# Altium integrated library ICM-45686.IntLib: 1 symbol
Pins are listed as number, name and electrical type; pins without a type are passive.

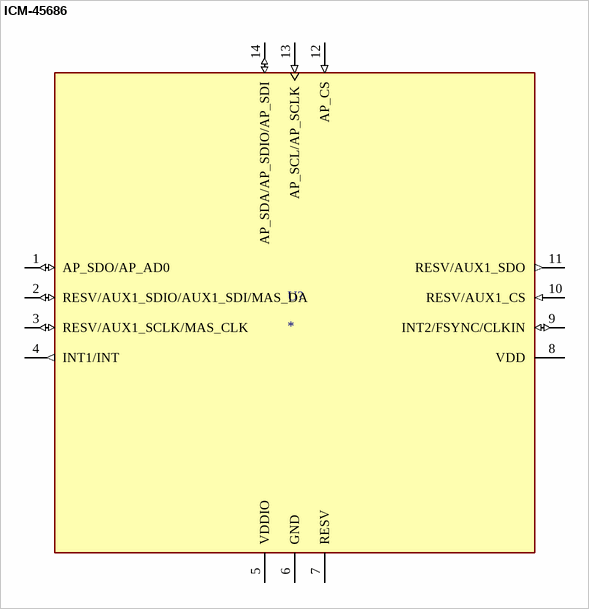
[diagram p0: symbol ICM-45686]

## ICM-45686
designator U?
Accelerometer, Gyroscope, 6 Axis Sensor I2C, I3C, SPI Output; MF: TDK InvenSense; MP: ICM-45686; SnapEDA_Link: https://www.snapeda.com/parts/ICM-45686/TDK+InvenSense/view-part/?ref=snap; Package: Package; Value: *; Check_prices: https://www.snapeda.com/parts/ICM-45686/TDK+InvenSense/view-part/?ref=eda
footprint IC_ICM-45686
pins: 1 AP_SDO/AP_AD0 (io), 2 RESV/AUX1_SDIO/AUX1_SDI/MAS_DA (io), 3 RESV/AUX1_SCLK/MAS_CLK (io), 4 INT1/INT (out), 5 VDDIO (power), 6 GND (power), 7 RESV, 8 VDD (power), 9 INT2/FSYNC/CLKIN (io), 10 RESV/AUX1_CS (in), 11 RESV/AUX1_SDO (out), 12 AP_CS (in), 13 AP_SCL/AP_SCLK (in), 14 AP_SDA/AP_SDIO/AP_SDI (io)